# EAGLE library part HEADER_2X20 (library 1)
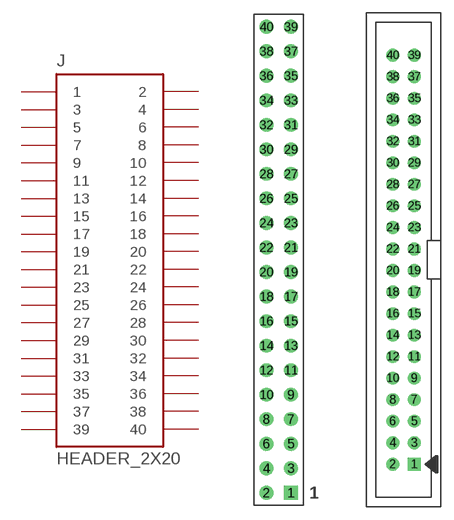
[diagram p32: symbol with the pads of 2X20_TH; footprints 2X20_TH, SBH11-PBPC-D20-ST-BK]

Designator prefix J

## HEADER_2X20  [2X20_TH]
1  1
2  2
3  3
4  4
5  5
6  6
7  7
8  8
9  9
10  10
11  11
12  12
13  13
14  14
15  15
16  16
17  17
18  18
19  19
20  20
21  21
22  22
23  23
24  24
25  25
26  26
27  27
28  28
29  29
30  30
31  31
32  32
33  33
34  34
35  35
36  36
37  37
38  38
39  39
40  40

## HEADER_2X20KEYED  [SBH11-PBPC-D20-ST-BK]
Pads as for 2X20_TH

## Footprint 2X20_TH (pad centres in mm)
2x20 0.1" Header
drill 0.914 square: 1 0,0
drill 0.914: 2 -2.54,0; 3 0,2.54; 4 -2.54,2.54; 5 0,5.08; 6 -2.54,5.08; 7 0,7.62; 8 -2.54,7.62; 9 0,10.16; 10 -2.54,10.16; 11 0,12.7; 12 -2.54,12.7; 13 0,15.24; 14 -2.54,15.24; 15 0,17.78; 16 -2.54,17.78; 17 0,20.32; 18 -2.54,20.32; 19 0,22.86; 20 -2.54,22.86; 21 0,25.4; 22 -2.54,25.4; 23 0,27.94; 24 -2.54,27.94; 25 0,30.48; 26 -2.54,30.48; 27 0,33.02; 28 -2.54,33.02; 29 0,35.56; 30 -2.54,35.56; 31 0,38.1; 32 -2.54,38.1; 33 0,40.64; 34 -2.54,40.64; 35 0,43.18; 36 -2.54,43.18; 37 0,45.72; 38 -2.54,45.72; 39 0,48.26; 40 -2.54,48.26

## Footprint SBH11-PBPC-D20-ST-BK (pad centres in mm)
SBH11-PBPC-D20-ST-BK MATE: SFH210-PPPC-D20-ID-BK
drill 0.991 square: 1 0,0
drill 0.991: 2 -2.54,0; 3 0,2.54; 4 -2.54,2.54; 5 0,5.08; 6 -2.54,5.08; 7 0,7.62; 8 -2.54,7.62; 9 0,10.16; 10 -2.54,10.16; 11 0,12.7; 12 -2.54,12.7; 13 0,15.24; 14 -2.54,15.24; 15 0,17.78; 16 -2.54,17.78; 17 0,20.32; 18 -2.54,20.32; 19 0,22.86; 20 -2.54,22.86; 21 0,25.4; 22 -2.54,25.4; 23 0,27.94; 24 -2.54,27.94; 25 0,30.48; 26 -2.54,30.48; 27 0,33.02; 28 -2.54,33.02; 29 0,35.56; 30 -2.54,35.56; 31 0,38.1; 32 -2.54,38.1; 33 0,40.64; 34 -2.54,40.64; 35 0,43.18; 36 -2.54,43.18; 37 0,45.72; 38 -2.54,45.72; 39 0,48.26; 40 -2.54,48.26